# Altium footprint library Ax2WDRobot.PcbLib: 6 footprints
Each footprint in its own frame and in the unit in brackets; x right, y up, seen from the top. Pads: shape width x height; smd on the part's side, far side on the other; paste and mask are expansions set on the pad; w line width, h text height; cw(c..) or ccw(c..) is an arc to the next point about the centre after c.
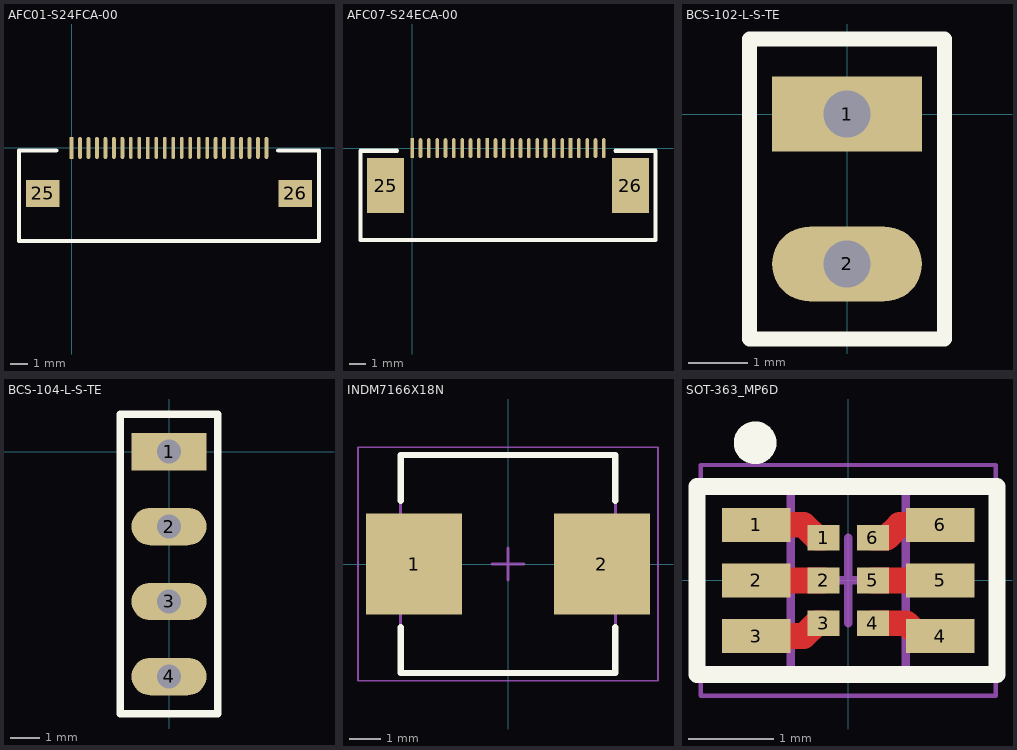
[diagram p0: the footprints below, top view; thin cyan lines are the x and y axes]

## AFC01-S24FCA-00 [mm] "24 0.020\"(0.50mm) 0.079\"(2.00mm) Forward Slip Contact,Bottom P=0.5mm FFC, FPC"
pads (26):
  rect 0.22x1.3 smd mask+0.05: 1(0,0) 10(4.5,0) 20(9.5,0)
  oval 0.22x1.3 smd mask+0.05: 2(0.5,0) 3(1,0) 4(1.5,0) 5(2,0) 6(2.5,0) 7(3,0) 8(3.5,0) 9(4,0) 11(5,0) 12(5.5,0) 13(6,0) 14(6.5,0) 15(7,0) 16(7.5,0) 17(8,0) 18(8.5,0) 19(9,0) 21(10,0) 22(10.5,0) 23(11,0) 24(11.5,0)
  rect 2x1.6 smd: 25(-1.7,-2.68) 26(13.2,-2.68)
Top Overlay:
  lines w0.25: -0.9,-0.15 -3.1,-0.15 -3.1,-5.5 14.6,-5.5 14.6,-0.15 12.2,-0.15
3D body: height 2, standoff 0, extent -3.225,-5.625 14.6,-0.025

## AFC07-S24ECA-00 [mm] "Slide Lock 24P Contact,Top Surface Mount 0.5mm SMD,P=0.5mm FFC/FPC"
pads (26):
  rect 0.22x1.2 smd mask+0.05: 1(0,0) 10(4.5,0) 20(9.5,0)
  oval 0.22x1.2 smd mask+0.05: 2(0.5,0) 3(1,0) 4(1.5,0) 5(2,0) 6(2.5,0) 7(3,0) 8(3.5,0) 9(4,0) 11(5,0) 12(5.5,0) 13(6,0) 14(6.5,0) 15(7,0) 16(7.5,0) 17(8,0) 18(8.5,0) 19(9,0) 21(10,0) 22(10.5,0) 23(11,0) 24(11.5,0)
  rect 2.2x3.3 smd: 25(-1.6,-2.25) 26(13.1,-2.25)
Top Overlay:
  lines w0.25: -0.9,-0.15 -3.1,-0.15 -3.1,-5.5 14.6,-5.5 14.6,-0.15 12.2,-0.15
3D body: height 2, standoff 0, extent -3.225,-5.625 14.6,-0.025

## BCS-102-L-S-TE [mm] "Pass-Through Socket Strip, 0.100\" pitch 2Pos"
height 8.5
pads (2):
  rect 2.54x1.27 hole 0.8: 1(0,0)
  oval 2.54x1.27 hole 0.8: 2(0,-2.54)
Top Overlay:
  lines w0.254: -1.651,-3.808 -1.651,1.27 1.651,1.27 1.651,-3.808 -1.651,-3.808
3D body "BCS-102-L-S-TE.stp": height 7.49, standoff -2.97, extent -1.27,-3.81 1.27,1.27

## BCS-104-L-S-TE [mm]
pads (4):
  rect 2.54x1.27 hole 0.8: 1(0,0)
  oval 2.54x1.27 hole 0.8: 2(0,-2.54) 3(0,-5.08) 4(0,-7.62)
Top Overlay:
  lines w0.254: -1.651,-8.89 1.651,-8.89 1.651,1.27 -1.651,1.27 -1.651,-8.89
3D body "BCS-104-L-S-TE.stp": height 7.49, standoff -2.97, extent -1.143,-8.89 1.397,1.27

## INDM7166X18N [mm] "Molded Inductor, 2-Leads, Body 7.10x6.60mm, IPC Medium Density"
height 1.8
pads (2):
  rect 3.05x3.2 smd: 1(-2.975,0) 2(2.975,0)
Top Overlay:
  lines w0.2: -3.4,-2 -3.4,-3.45 3.4,-3.45 3.4,-2 ; -3.4,2 -3.4,3.45 3.4,3.45 3.4,2
Mechanical 13:
  lines w0.1: -3.4,-3.45 -3.4,3.45 3.4,3.45 3.4,-3.45 -3.4,-3.45
Mechanical 15:
  lines w0.05: -4.75,-3.7 -4.75,3.7 4.75,3.7 4.75,-3.7 -4.75,-3.7
  lines w0.1: -0.5,0 0.5,0 ; 0,-0.5 0,0.5
3D body: height 1.8, standoff 0, extent -3.4,-3.45 3.4,3.45

## SOT-363_MP6D [mm] "SOT-363 US6 or MP6D"
pads (12):
  rect 0.8x0.4 smd mask+0.02: 1(-1.075,0.65) 2(-1.075,0) 3(-1.075,-0.65) 4(1.075,-0.65) 5(1.075,0) 6(1.075,0.65)
  rect 0.375x0.3 smd mask+0.02: 1(-0.288,0.5) 2(-0.288,0) 3(-0.288,-0.5) 4(0.288,-0.5) 5(0.288,0) 6(0.288,0.5)
Top Layer:
  lines w0.3: -1.075,-0.65 -0.52,-0.65 -0.37,-0.5 -0.288,-0.5 ; -1.075,0 -0.288,0 ; -1.075,0.65 -0.52,0.65 -0.37,0.5 -0.288,0.5 ; 0.288,-0.5 0.68,-0.5 0.83,-0.65 ; 0.288,0 1.075,0 ; 0.288,0.5 0.45,0.5 0.6,0.65 1.075,0.65
Top Overlay:
  circle w0.25: c-1.09,1.61 r0.125
  lines w0.2: -1.77,-1.1 1.74,-1.1 1.74,1.1 -1.77,1.1 -1.77,-1.1
Mechanical 13:
  lines w0.1: -0.675,-1.1 -0.675,1.1 0.675,1.1 0.675,-1.1 -0.675,-1.1
Mechanical 15:
  lines w0.05: -1.725,-1.35 -1.725,1.35 1.725,1.35 1.725,-1.35 -1.725,-1.35
  lines w0.1: -0.5,0 0.5,0 ; 0,-0.5 0,0.5